# EAGLE library part M10X2 (library Connectors)
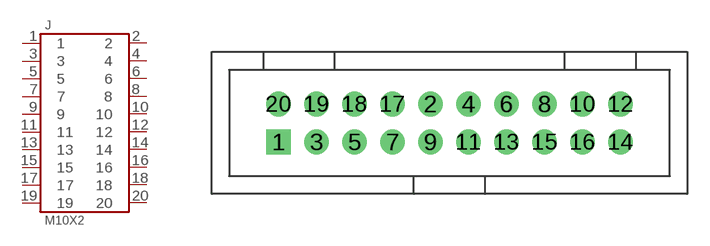
[diagram p0: symbol with the pads of M10X2-100MIL_SHROUDED; footprint M10X2-100MIL_SHROUDED]

Designator prefix J

## M10X2-100MIL_SHROUDED  [M10X2-100MIL_SHROUDED]
1  1
2  2
3  3
4  4
5  5
6  6
7  7
8  8
9  9
10  10
11  11
12  12
13  13
14  14
15  15
16  16
17  17
18  18
19  19
20  20

## Footprint M10X2-100MIL_SHROUDED (pad centres in mm)
drill 1.016 pad 1.651 square: 1 -11.43,-1.27
drill 1.016 pad 1.651: 2 -1.27,1.27; 3 -8.89,-1.27; 4 1.27,1.27; 5 -6.35,-1.27; 6 3.81,1.27; 7 -3.81,-1.27; 8 6.35,1.27; 9 -1.27,-1.27; 10 8.89,1.27; 11 1.27,-1.27; 12 11.43,1.27; 13 3.81,-1.27; 14 11.43,-1.27; 15 6.35,-1.27; 16 8.89,-1.27; 17 -3.81,1.27; 18 -6.35,1.27; 19 -8.89,1.27; 20 -11.43,1.27